# EAGLE library part 2X10 (library SHROUDED_PIN_HEADER_2x10)
2x10 Shrouded Pin Header 0.1 in pitch Datasheet: http://media.digikey.com/pdf/Data%20Sheets/Sullins%20PDFs/SBH11-PBPC-Dxx-ST-xx.pdf
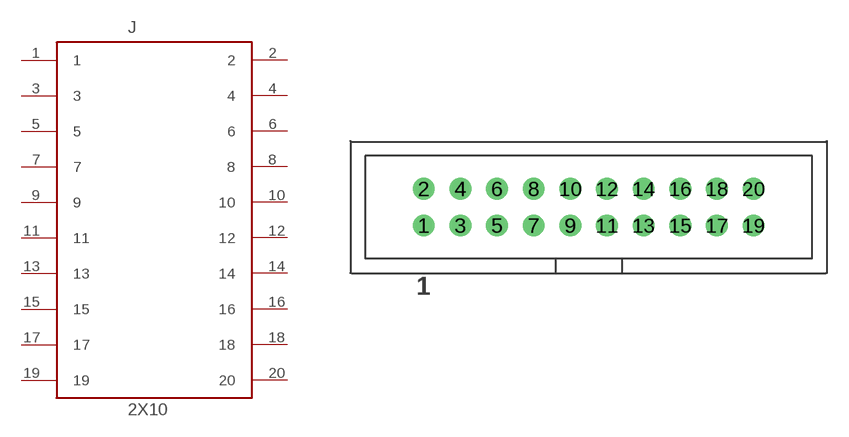
[diagram p0: symbol with the pads of 2X10; footprint 2X10]

Designator prefix J

## 2X10  [2X10]
1  1
2  2
3  3
4  4
5  5
6  6
7  7
8  8
9  9
10  10
11  11
12  12
13  13
14  14
15  15
16  16
17  17
18  18
19  19
20  20

## Footprint 2X10 (pad centres in mm)
2x10 Shrouded pin header
drill 1: 1 -11.43,-1.27; 2 -11.43,1.27; 3 -8.89,-1.27; 4 -8.89,1.27; 5 -6.35,-1.27; 6 -6.35,1.27; 7 -3.81,-1.27; 8 -3.81,1.27; 9 -1.27,-1.27; 10 -1.27,1.27; 11 1.27,-1.27; 12 1.27,1.27; 13 3.81,-1.27; 14 3.81,1.27; 15 6.35,-1.27; 16 6.35,1.27; 17 8.89,-1.27; 18 8.89,1.27; 19 11.43,-1.27; 20 11.43,1.27